# EAGLE library part C15 (library con-ninigi-3.96)
NINIGI
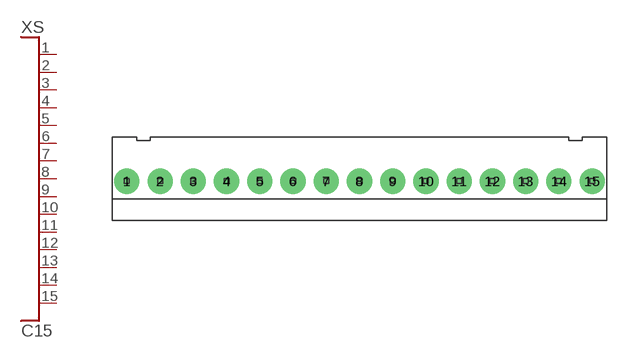
[diagram p9: symbol with the pads of NINIGI15C; footprint NINIGI15C]

Designator prefix XS

## C15  [NINIGI15C]
1  P$1
2  P$2
3  P$3
4  P$4
5  P$5
6  P$6
7  P$7
8  P$8
9  P$9
10  P$10
11  P$11
12  P$12
13  P$13
14  P$14
15  P$15

## Footprint NINIGI15C (pad centres in mm)
drill 1.6 pad 3: 1 -27.72,0; 2 -23.76,0; 3 -19.8,0; 4 -15.84,0; 5 -11.88,0; 6 -7.92,0; 7 -3.96,0; 8 0,0; 9 3.96,0; 10 7.92,0; 11 11.88,0; 12 15.84,0; 13 19.8,0; 14 23.76,0; 15 27.72,0